# EAGLE library part ACS712ELCTR-05B-T (library misc)
Current Sensor 5A 1 Channel Hall Effect, Open Loop Bidirectional 8-SOIC (0.154", 3.90mm Width)
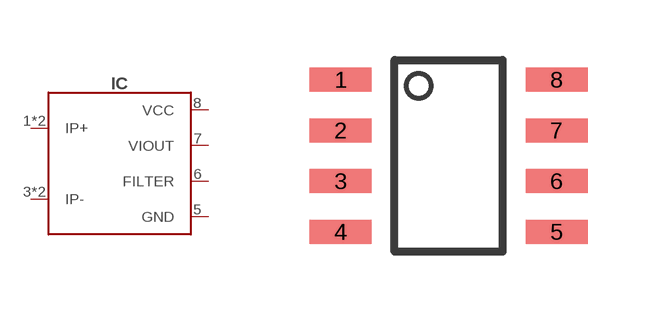
[diagram p25: symbol with the pads of SOIC8; footprint SOIC8]

Designator prefix IC

## ACS712ELCTR-05B-T (DIGIKEY#: 620-1189-1-ND; MANF: Allegro MicroSystems; MANF#: ACS712ELCTR-05B-T)  [SOIC8]
1  IP+
2  IP+
3  IP-
4  IP-
5  GND
6  FILTER
7  VIOUT
8  VCC

## Footprint SOIC8 (pad centres in mm)
https://www.ti.com/lit/ds/snvsaq5a/snvsaq5a.pdf?ts=1602424164509
smd 1.55 x 0.6: 1 -2.7,1.905; 2 -2.7,0.635; 3 -2.7,-0.635; 4 -2.7,-1.905; 5 2.7,-1.905; 6 2.7,-0.635; 7 2.7,0.635; 8 2.7,1.905